# EAGLE library part MFJ-5566-24 (library CalPolyUCV)
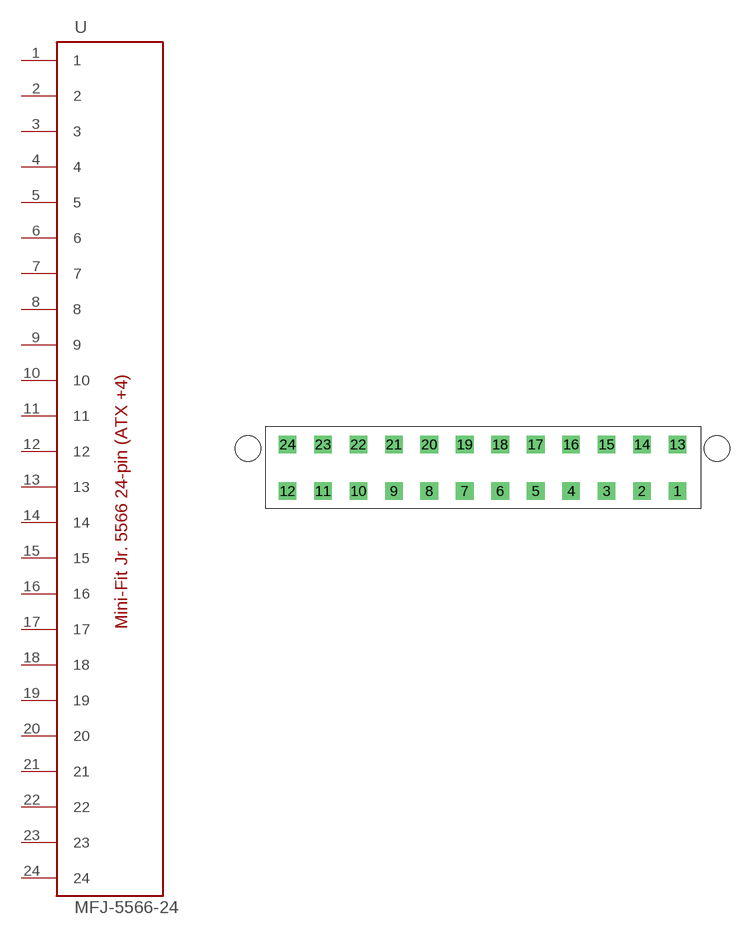
[diagram p6: symbol with the pads of MFJ-5566-24; footprint MFJ-5566-24]

Designator prefix -

## MFJ-5566-24  [MFJ-5566-24]
1  1
2  2
3  3
4  4
5  5
6  6
7  7
8  8
9  9
10  10
11  11
12  12
13  13
14  14
15  15
16  16
17  17
18  18
19  19
20  20
21  21
22  22
23  23
24  24

## Footprint MFJ-5566-24 (pad centres in mm)
drill 1.397 square: 1 22.987,-2.794; 2 18.796,-2.794; 3 14.605,-2.794; 4 10.414,-2.794; 5 6.223,-2.794; 6 2.032,-2.794; 7 -2.159,-2.794; 8 -6.35,-2.794; 9 -10.541,-2.794; 10 -14.732,-2.794; 11 -18.923,-2.794; 12 -23.114,-2.794; 13 22.987,2.718; 14 18.796,2.718; 15 14.605,2.718; 16 10.414,2.718; 17 6.223,2.718; 18 2.032,2.718; 19 -2.159,2.718; 20 -6.35,2.718; 21 -10.541,2.718; 22 -14.732,2.718; 23 -18.923,2.718; 24 -23.114,2.718
hole 2.997 at -27.813,2.261
hole 2.997 at 27.686,2.261